# EAGLE library part DCCM15PCBRPN (library DCCM15PCBRPN)
D-Sub Micro-D Connectors 15P RA PCB cntcts Pin nickel plating Source: Datasheet <https://www.belfuse.com/resources/catalogs/cinchconnectivitysolutions/duracon/cat-css-dura-dura-con-catalog.pdf>
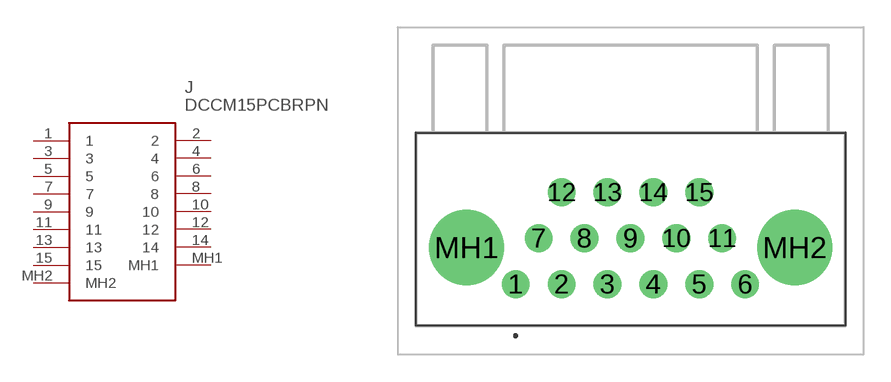
[diagram p0: symbol with the pads of DCCM15PCBRPN; footprint DCCM15PCBRPN]

Designator prefix J

## DCCM15PCBRPN (Description: D-Sub Micro-D Connectors 15P RA PCB cntcts Pin nickel plating; Height: 7.82mm; Manufacturer_Name: Cinch; Manufacturer_Part_Number: DCCM15PCBRPN; Mouser_Part_Number: 538-DCCM15PCBRPN; Mouser_Price-Stock: https://www.mouser.com/Search/Refine.aspx?Keyword=538-DCCM15PCBRPN)  [DCCM15PCBRPN]
1  1
2  2
3  3
4  4
5  5
6  6
7  7
8  8
9  9
10  10
11  11
12  12
13  13
14  14
15  15
MH1  MH1
MH2  MH2

## Footprint DCCM15PCBRPN (pad centres in mm)
DCCM15PCBRPN-1
drill 1.02 pad 1.53: 1 0,0; 2 2.54,0; 3 5.079,0; 4 7.619,0; 5 10.16,0; 6 12.7,0; 7 1.27,2.54; 8 3.809,2.54; 9 6.35,2.54; 10 8.89,2.54; 11 11.43,2.54; 12 2.54,5.08; 13 5.079,5.08; 14 7.619,5.08; 15 10.16,5.08
drill 2.77 pad 4.155: MH1 -2.717,2.032; MH2 15.442,2.032